# EAGLE library part FG326A2 (library Ketturi electronics)
FGA326A2 Itron VFD display 14 segment 32 digit vacuum fluorescent display
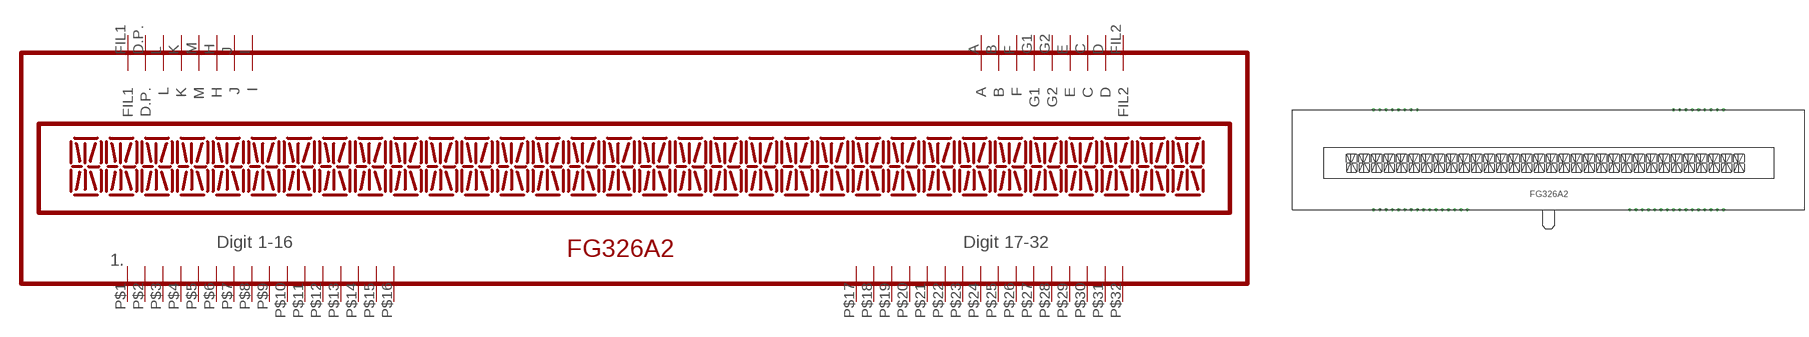
[diagram p0: symbol with the pads of FG326A2; footprint FG326A2]

Designator prefix -

## FG326A2  [FG326A2]
A  A
B  B
C  C
D  D
D.P.  D.P.
E  E
F  F
FIL1  FIL1
FIL2  FIL2
G1  G1
G2  G2
H  H
I  I
J  J
K  K
L  L
M  M
P$1  P$1
P$2  P$2
P$3  P$3
P$4  P$4
P$5  P$5
P$6  P$6
P$7  P$7
P$8  P$8
P$9  P$9
P$10  P$10
P$11  P$11
P$12  P$12
P$13  P$13
P$14  P$14
P$15  P$15
P$16  P$16
P$17  P$17
P$18  P$18
P$19  P$19
P$20  P$20
P$21  P$21
P$22  P$22
P$23  P$23
P$24  P$24
P$25  P$25
P$26  P$26
P$27  P$27
P$28  P$28
P$29  P$29
P$30  P$30
P$31  P$31
P$32  P$32

## Footprint FG326A2 (pad centres in mm)
drill 0.8: A 124.46,43.18; B 127,43.18; C 139.7,43.18; D 142.24,43.18; D.P. 5.08,43.18; E 137.16,43.18; F 129.54,43.18; FIL1 2.54,43.18; FIL2 144.78,43.18; G1 132.08,43.18; G2 134.62,43.18; H 15.24,43.18; I 20.32,43.18; J 17.78,43.18; K 10.16,43.18; L 7.62,43.18; M 12.7,43.18; P$1 2.54,2.54; P$2 5.08,2.54; P$3 7.62,2.54; P$4 10.16,2.54; P$5 12.7,2.54; P$6 15.24,2.54; P$7 17.78,2.54; P$8 20.32,2.54; P$9 22.86,2.54; P$10 25.4,2.54; P$11 27.94,2.54; P$12 30.48,2.54; P$13 33.02,2.54; P$14 35.56,2.54; P$15 38.1,2.54; P$16 40.64,2.54; P$17 106.68,2.54; P$18 109.22,2.54; P$19 111.76,2.54; P$20 114.3,2.54; P$21 116.84,2.54; P$22 119.38,2.54; P$23 121.92,2.54; P$24 124.46,2.54; P$25 127,2.54; P$26 129.54,2.54; P$27 132.08,2.54; P$28 134.62,2.54; P$29 137.16,2.54; P$30 139.7,2.54; P$31 142.24,2.54; P$32 144.78,2.54